# Altium footprint library LM1501AGR.PcbLib: 1 footprints
Each footprint in its own frame and in the unit in brackets; x right, y up, seen from the top. Pads: shape width x height; smd on the part's side, far side on the other; paste and mask are expansions set on the pad; w line width, h text height; cw(c..) or ccw(c..) is an arc to the next point about the centre after c.
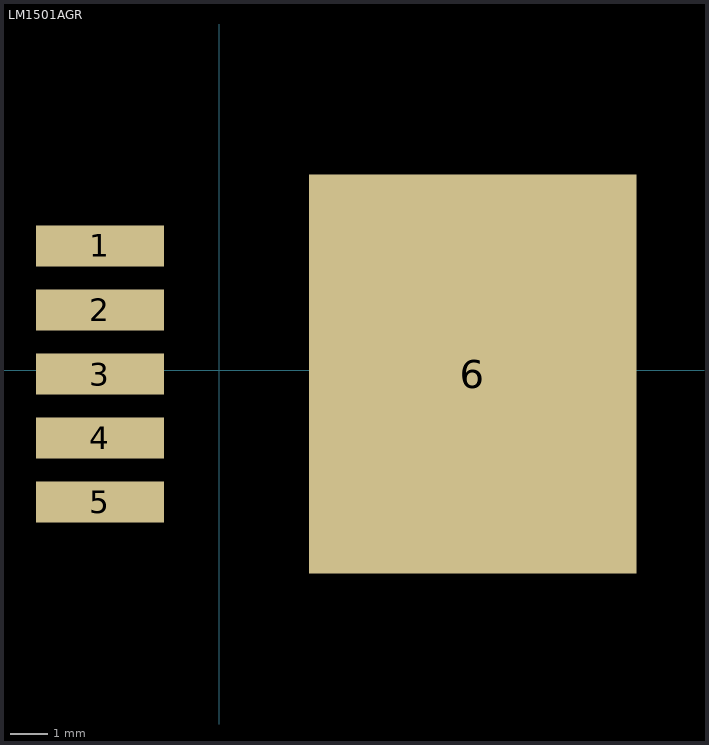
[diagram p0: the footprint, top view; thin cyan lines are the x and y axes]

## LM1501AGR [mm]
pads (6):
  rect 3.4x1.1 all layers, no hole: 1(-3.175,3.3) 2(-3.175,1.6) 3(-3.175,-0.1) 4(-3.175,-1.8) 5(-3.175,-3.5)
  rect 8.705x10.587 all layers, no hole: 6(6.731,-0.1)